# EAGLE library part 750316586 (library Wurth_Power Magnetics_WE-IBTI)
WE-IBTI Isolated Buck Transformers Characteristics Flybuck™ topology Operating Temp: -40°C to +125°C Excellent leakage inductance and interwinding capacitance performance Applications Industrial Programmable Logic Controllers (PLCs) Building automation and process control Isolated interface power: RS-422, RS-485, CAN, I2C, LAN Motor drive control, inverters and industrial automation Isolated low power drivers & regulators, smart e-meters Bias power supplies for gate drives and op-amps <https://www.we-online.com/components/media/o790826v209%20family-MID-IBTI.1673.jpg> Details see: www.we-online.com/en/components/products/WE-IBTI <www.we-online.com/catalog/WE-IBTI/?utm_source=eagle_model&utm_medium=description_link&utm_campaign=eisos_eagle> Created by Ella Wu 2024-06-07 2024 (C) Wurth Elektronik
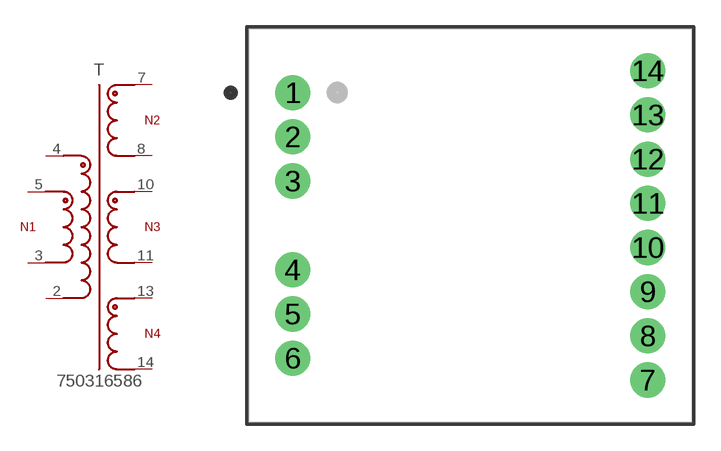
[diagram p25: symbol with the pads of WE-IBTI_EE20/10/6_L22.2W25H16_14PINS; footprint WE-IBTI_EE20/10/6_L22.2W25H16_14PINS]

Designator prefix T

## 750316586 (DATASHEET-URL: https://www.we-online.com/redexpert/spec/750316586?ae; FSWITCH: 200kHz; HEIGHT: 16mm; IOUT1: 300mA; IOUT2: 50mA; IOUT3: 75mA; ISAT: 1.3A; L: 150uH; LENGTH: 22.2mm; LS: 1700nH; MOUNT: THT; N: 1.69:1:1.69:4.07; PART-NUMBER: 750316586; SIZE: EE20/10/6; VALUE: 750316586; VBUCK: -12V; VIN: 10 - 14 V (DC); VOUT1: 7V; VOUT2: 12V; VOUT3: 30V; VT: 4000V(AC); WIDTH: 25mm)  [WE-IBTI_EE20/10/6_L22.2W25H16_14PINS]
2  2  pas
3  3  pas
4  4  pas
5  5  pas
7  7  pas
8  8  pas
10  10  pas
11  11  pas
13  13  pas
14  14  pas

## Footprint WE-IBTI_EE20/10/6_L22.2W25H16_14PINS (pad centres in mm)
WE-IBTI Isolated Buck Transformers Size:EE20/10/6,THT,14pins LXWXH=22.2X25X16mm
drill 1.32: 1 -10,7.48; 2 -10,4.99; 3 -10,2.5; 4 -10,-2.5; 5 -10,-4.99; 6 -10,-7.48; 7 10,-8.715; 8 10,-6.225; 9 10,-3.735; 10 10,-1.245; 11 10,1.245; 12 10,3.735; 13 10,6.225; 14 10,8.715